# EAGLE library part FH26-61S-0.3SHW (library LPC4088_QuickStart_Board)
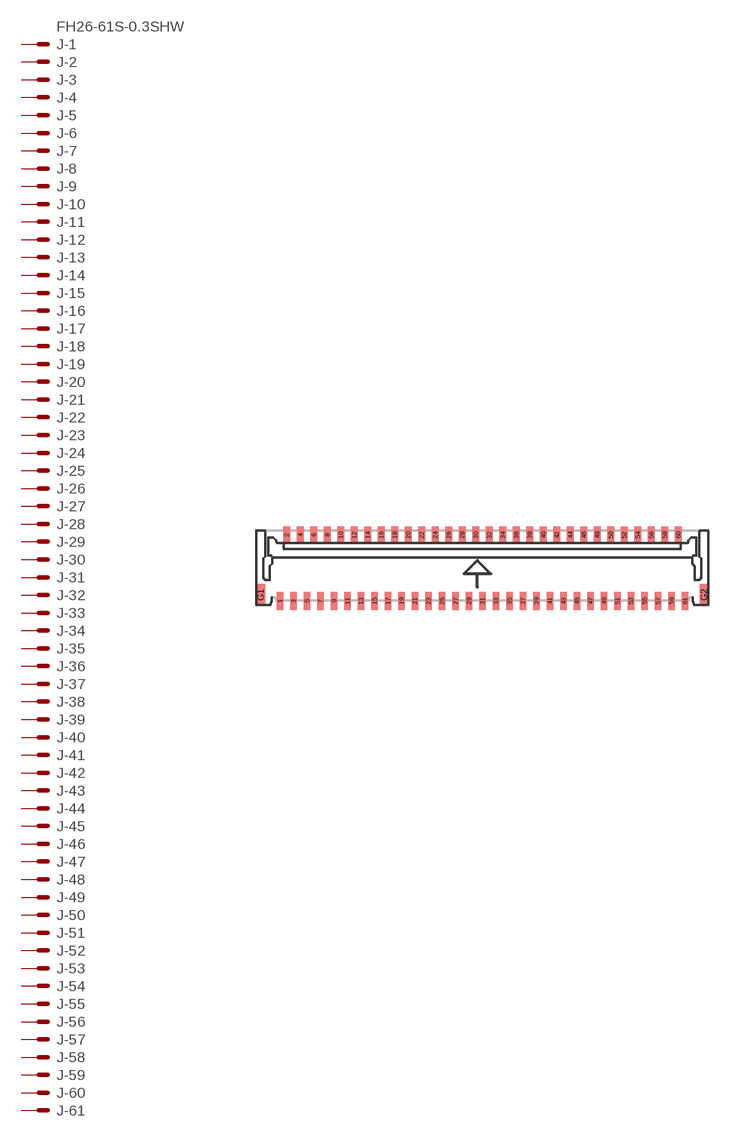
[diagram p2: symbol with the pads of FH26-61S-0.3SHW; footprint FH26-61S-0.3SHW]

Designator prefix J; gates -1=PV -2=P -3=P -4=P -5=P -6=P -7=P -8=P -9=P -10=P -11=P -12=P -13=P -14=P -15=P -16=P -17=P -18=P -19=P -20=P -21=P -22=P -23=P -24=P -25=P -26=P -27=P -28=P -29=P -30=P -31=P -32=P -33=P -34=P -35=P -36=P -37=P -38=P -39=P -40=P -41=P -42=P -43=P -44=P -45=P -46=P -47=P -48=P -49=P -50=P -51=P -52=P -53=P -54=P -55=P -56=P -57=P -58=P -59=P -60=P -61=P

## FH26-61S-0.3SHW  [FH26-61S-0.3SHW]
1  -1:MS  pas
2  -2:MS  pas
3  -3:MS  pas
4  -4:MS  pas
5  -5:MS  pas
6  -6:MS  pas
7  -7:MS  pas
8  -8:MS  pas
9  -9:MS  pas
10  -10:MS  pas
11  -11:MS  pas
12  -12:MS  pas
13  -13:MS  pas
14  -14:MS  pas
15  -15:MS  pas
16  -16:MS  pas
17  -17:MS  pas
18  -18:MS  pas
19  -19:MS  pas
20  -20:MS  pas
21  -21:MS  pas
22  -22:MS  pas
23  -23:MS  pas
24  -24:MS  pas
25  -25:MS  pas
26  -26:MS  pas
27  -27:MS  pas
28  -28:MS  pas
29  -29:MS  pas
30  -30:MS  pas
31  -31:MS  pas
32  -32:MS  pas
33  -33:MS  pas
34  -34:MS  pas
35  -35:MS  pas
36  -36:MS  pas
37  -37:MS  pas
38  -38:MS  pas
39  -39:MS  pas
40  -40:MS  pas
41  -41:MS  pas
42  -42:MS  pas
43  -43:MS  pas
44  -44:MS  pas
45  -45:MS  pas
46  -46:MS  pas
47  -47:MS  pas
48  -48:MS  pas
49  -49:MS  pas
50  -50:MS  pas
51  -51:MS  pas
52  -52:MS  pas
53  -53:MS  pas
54  -54:MS  pas
55  -55:MS  pas
56  -56:MS  pas
57  -57:MS  pas
58  -58:MS  pas
59  -59:MS  pas
60  -60:MS  pas
61  -61:MS  pas

## Footprint FH26-61S-0.3SHW (pad centres in mm)
smd 0.3 x 0.8: 1 -8.77,-1.8; 3 -8.17,-1.8; 5 -7.57,-1.8; 7 -6.97,-1.8; 9 -6.37,-1.8; 11 -5.77,-1.8; 13 -5.17,-1.8; 15 -4.57,-1.8; 17 -3.97,-1.8; 19 -3.37,-1.8; 21 -2.77,-1.8; 23 -2.17,-1.8; 25 -1.57,-1.8; 27 -0.97,-1.8; 29 -0.37,-1.8; 31 0.23,-1.8; 33 0.83,-1.8; 35 1.43,-1.8; 37 2.03,-1.8; 39 2.63,-1.8; 41 3.23,-1.8; 43 3.83,-1.8; 45 4.43,-1.8; 47 5.03,-1.8; 49 5.63,-1.8; 51 6.23,-1.8; 53 6.83,-1.8; 55 7.43,-1.8; 57 8.03,-1.8; 59 8.63,-1.8; 61 9.23,-1.8
smd 0.3 x 0.75: 2 -8.47,1.13; 4 -7.87,1.13; 6 -7.27,1.13; 8 -6.67,1.13; 10 -6.07,1.13; 12 -5.47,1.13; 14 -4.87,1.13; 16 -4.27,1.13; 18 -3.67,1.13; 20 -3.07,1.13; 22 -2.47,1.13; 24 -1.87,1.13; 26 -1.27,1.13; 28 -0.67,1.13; 30 -0.07,1.13; 32 0.53,1.13; 34 1.13,1.13; 36 1.73,1.13; 38 2.33,1.13; 40 2.93,1.13; 42 3.53,1.13; 44 4.13,1.13; 46 4.73,1.13; 48 5.33,1.13; 50 5.93,1.13; 52 6.53,1.13; 54 7.13,1.13; 56 7.73,1.13; 58 8.33,1.13; 60 8.93,1.13
smd 0.4 x 0.95: G1 -9.62,-1.53; G2 10.08,-1.53